# Altium footprint library RSP-122811-01.PcbLib: 1 footprints
Each footprint in its own frame and in the unit in brackets; x right, y up, seen from the top. Pads: shape width x height; smd on the part's side, far side on the other; paste and mask are expansions set on the pad; w line width, h text height; cw(c..) or ccw(c..) is an arc to the next point about the centre after c.
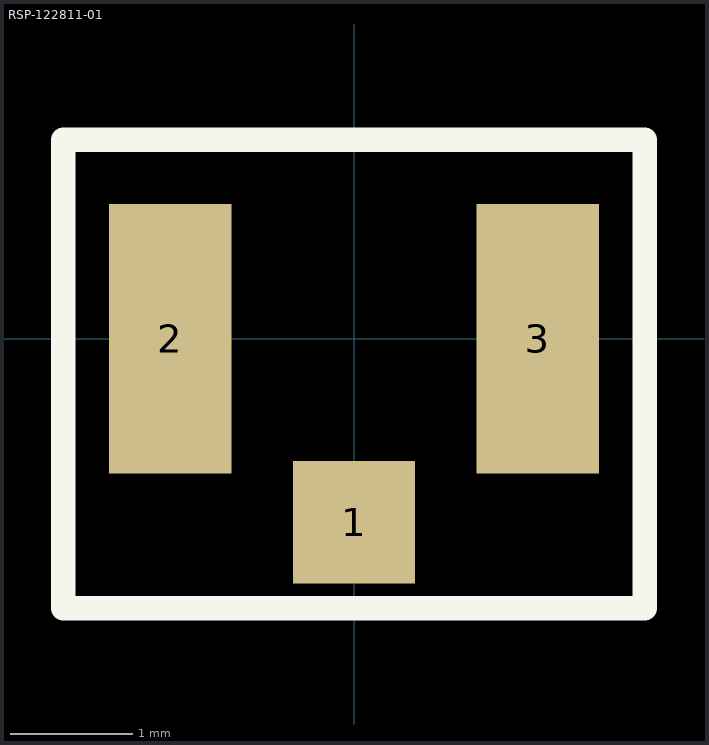
[diagram p0: the footprint, top view; thin cyan lines are the x and y axes]

## RSP-122811-01 [mm]
height 0.95
pads (3):
  rect 1x1 smd: 1(0,-1.5)
  rect 1x2.2 smd: 2(-1.5,0) 3(1.5,0)
Top Overlay:
  lines w0.2: -2.375,-2.2 2.375,-2.2 2.375,1.625 -2.375,1.625 -2.375,-2.2
Top Assembly:
  lines w0.1: -2.35,-2.2 -2.35,1.625 2.35,1.625 2.35,-2.2 -2.35,-2.2
  text "'.Designator'" at -0.925,-0.325 h0.7
3D body "User Library-IPEX.step": height 1.25, standoff -0.01, extent -1.5,-1.55 1.5,1.55